# EAGLE library part MCP2200-I_SO (library MCP2200-I_SO)
USB 2.0 to serial UART converter w/ GPIO Source: Datasheet <http://ww1.microchip.com/downloads/en/DeviceDoc/22228B.pdf>
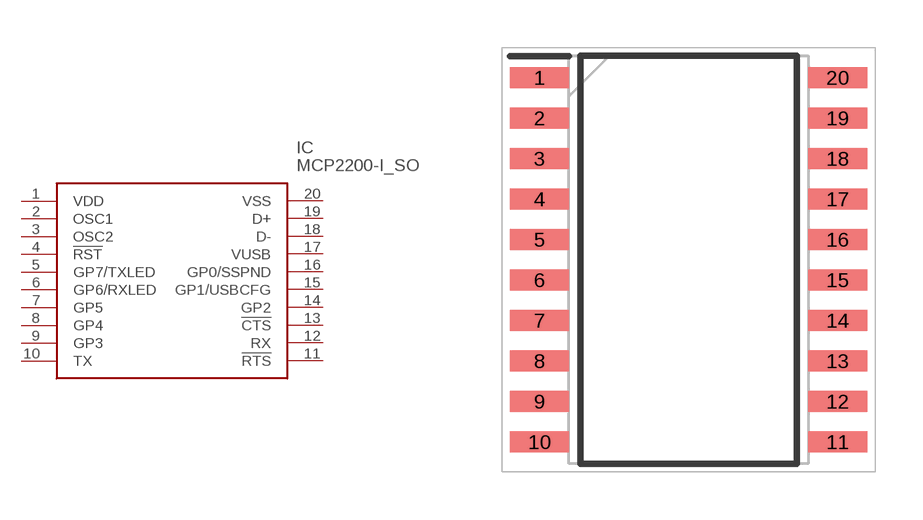
[diagram p0: symbol with the pads of SOIC127P1030X265-20N; footprint SOIC127P1030X265-20N]

Designator prefix IC

## MCP2200-I_SO (Allied_Number: 70047463; Allied_Price/Stock: http://www.alliedelec.com/microchip-technology-inc-mcp2200-i-so/70047463/; Arrow_Part_Number: MCP2200-I/SO; Arrow_Price/Stock: https://www.arrow.com/en/products/mcp2200-iso/microchip-technology; Description: USB 2.0 to serial UART converter w/ GPIO; Height: 2.65mm; Manufacturer_Name: Microchip; Manufacturer_Part_Number: MCP2200-I/SO; RS_Part_Number: 6988993P; RS_Price/Stock: http://uk.rs-online.com/web/p/products/6988993P)  [SOIC127P1030X265-20N]
1  VDD  pwr
2  OSC1
3  OSC2
4  !RST  in
5  GP7/TXLED
6  GP6/RXLED
7  GP5
8  GP4
9  GP3
10  TX
11  !RTS
12  RX
13  !CTS
14  GP2
15  GP1/USBCFG
16  GP0/SSPND
17  VUSB
18  D-
19  D+
20  VSS  pwr

## Footprint SOIC127P1030X265-20N (pad centres in mm)
(SO)20-Lead(SOIC)
smd 1.85 x 0.65: 1 -4.675,5.715; 2 -4.675,4.445; 3 -4.675,3.175; 4 -4.675,1.905; 5 -4.675,0.635; 6 -4.675,-0.635; 7 -4.675,-1.905; 8 -4.675,-3.175; 9 -4.675,-4.445; 10 -4.675,-5.715; 11 4.675,-5.715; 12 4.675,-4.445; 13 4.675,-3.175; 14 4.675,-1.905; 15 4.675,-0.635; 16 4.675,0.635; 17 4.675,1.905; 18 4.675,3.175; 19 4.675,4.445; 20 4.675,5.715